# Altium footprint library TC2030-IDC.PcbLib: 2 footprints
Each footprint in its own frame and in the unit in brackets; x right, y up, seen from the top. Pads: shape width x height; smd on the part's side, far side on the other; paste and mask are expansions set on the pad; w line width, h text height; cw(c..) or ccw(c..) is an arc to the next point about the centre after c.
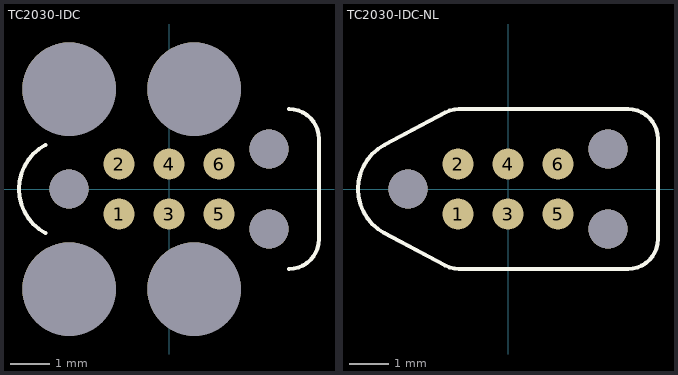
[diagram p0: the footprints below, top view; thin cyan lines are the x and y axes]

## TC2030-IDC [mil]
pads (13):
  round 31 smd: 1(-50,-25) 2(-50,25) 3(0,-25) 4(0,25) 5(50,-25) 6(50,25)
  round 93.5 hole 93.5 unplated: ""(-100,-100) ""(-100,100) ""(25,-100) ""(25,100)
  round 39 hole 39 unplated: ""(-100,0) ""(100,-40) ""(100,40)
Top Overlay:
  lines w3.94: -123.55,-44.11 cw(c-100,0) -123.55,44.11 ; 120.08,-79.92 ccw(c120.08,-50) 150,-50 150,50 ccw(c120.08,50) 120.08,79.92
3D body "TC2030-IDC.STEP": height 2000, standoff -185, extent -195,-192.75 195,192.75

## TC2030-IDC-NL [mil]
pads (9):
  round 31 smd: 1(-50,-25) 2(-50,25) 3(0,-25) 4(0,25) 5(50,-25) 6(50,25)
  round 39 hole 39 unplated: ""(-100,0) ""(100,-40) ""(100,40)
Top Overlay:
  lines w3.94: -124.24,-43.75 -62.95,-76.39 ccw(c-48.82,-49.92) -48.82,-79.92 120.08,-79.92 ccw(c120.08,-50) 150,-50 150,50 ccw(c120.08,50) 120.08,79.92 -48.82,79.92 ccw(c-48.82,49.92) -62.95,76.39 ; -123.55,-44.11 cw(c-100,0) -123.55,44.11 -62.26,76.74
3D body "TC2030-IDC-NL.STEP": height 2000, standoff -264, extent -195,-137.5 195,137.5